# Altium footprint library HWSON8_50P200X300-8L.PcbLib: 1 footprints
Each footprint in its own frame and in the unit in brackets; x right, y up, seen from the top. Pads: shape width x height; smd on the part's side, far side on the other; paste and mask are expansions set on the pad; w line width, h text height; cw(c..) or ccw(c..) is an arc to the next point about the centre after c.
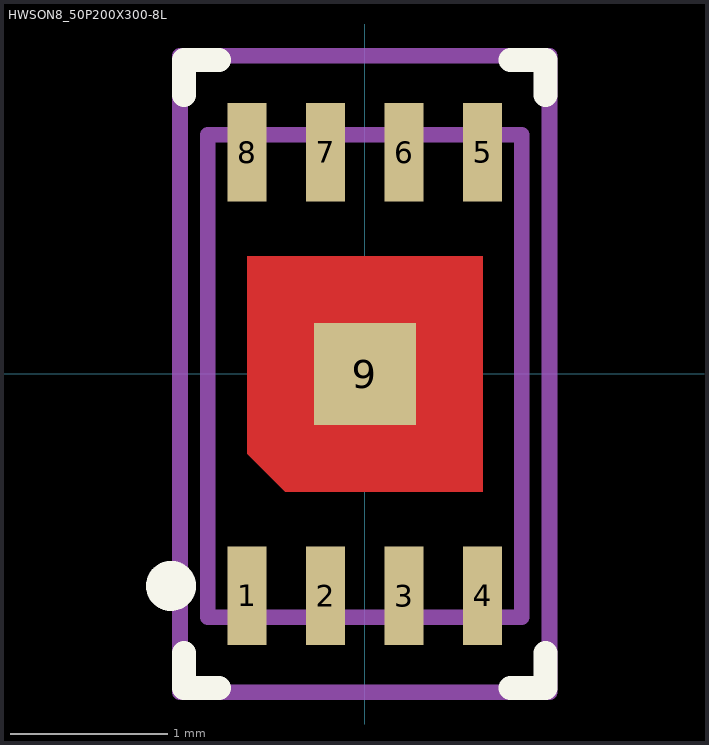
[diagram p0: the footprint, top view; thin cyan lines are the x and y axes]

## HWSON8_50P200X300-8L [mm] "Pitch 0.5mm Body 2X3mm High 0.8mm"
height 0.8
pads (9):
  rect 0.25x0.625 smd: 1(-0.75,-1.413) 2(-0.25,-1.412) 3(0.25,-1.412) 4(0.75,-1.412) 5(0.75,1.413) 6(0.25,1.413) 7(-0.25,1.412) 8(-0.75,1.413)
  rect 0.65x0.65 smd: 9(0,0)
Top Layer:
  region: 0.75,0.75 -0.75,0.75 -0.75,-0.508 -0.508,-0.75 0.75,-0.75
Top Overlay:
  circle w0.16: c-1.235,-1.35 r0.08
  lines w0.152: -1.151,-1.778 -1.151,-2.001 -0.928,-2.001 ; -1.151,1.778 -1.151,2.001 -0.928,2.001 ; 0.928,-2.001 1.151,-2.001 1.151,-1.778 ; 0.928,2.001 1.151,2.001 1.151,1.778
Mechanical 13:
  lines w0.1: -1,-1.55 -1,1.524 1,1.524 1,-1.55 -1,-1.55
Mechanical 15:
  lines w0.1: -1.177,-2.027 1.177,-2.027 1.177,2.027 -1.177,2.027 -1.177,-2.027
3D body: height 0.75, standoff -0.02, extent -1,-1.55 1,1.55